# Altium footprint library aiskylab-08Optoelectronics.PcbLib: 57 footprints (part 4 of 4)
Each footprint in its own frame and in the unit in brackets; x right, y up, seen from the top. Pads: shape width x height; smd on the part's side, far side on the other; paste and mask are expansions set on the pad; w line width, h text height; cw(c..) or ccw(c..) is an arc to the next point about the centre after c.
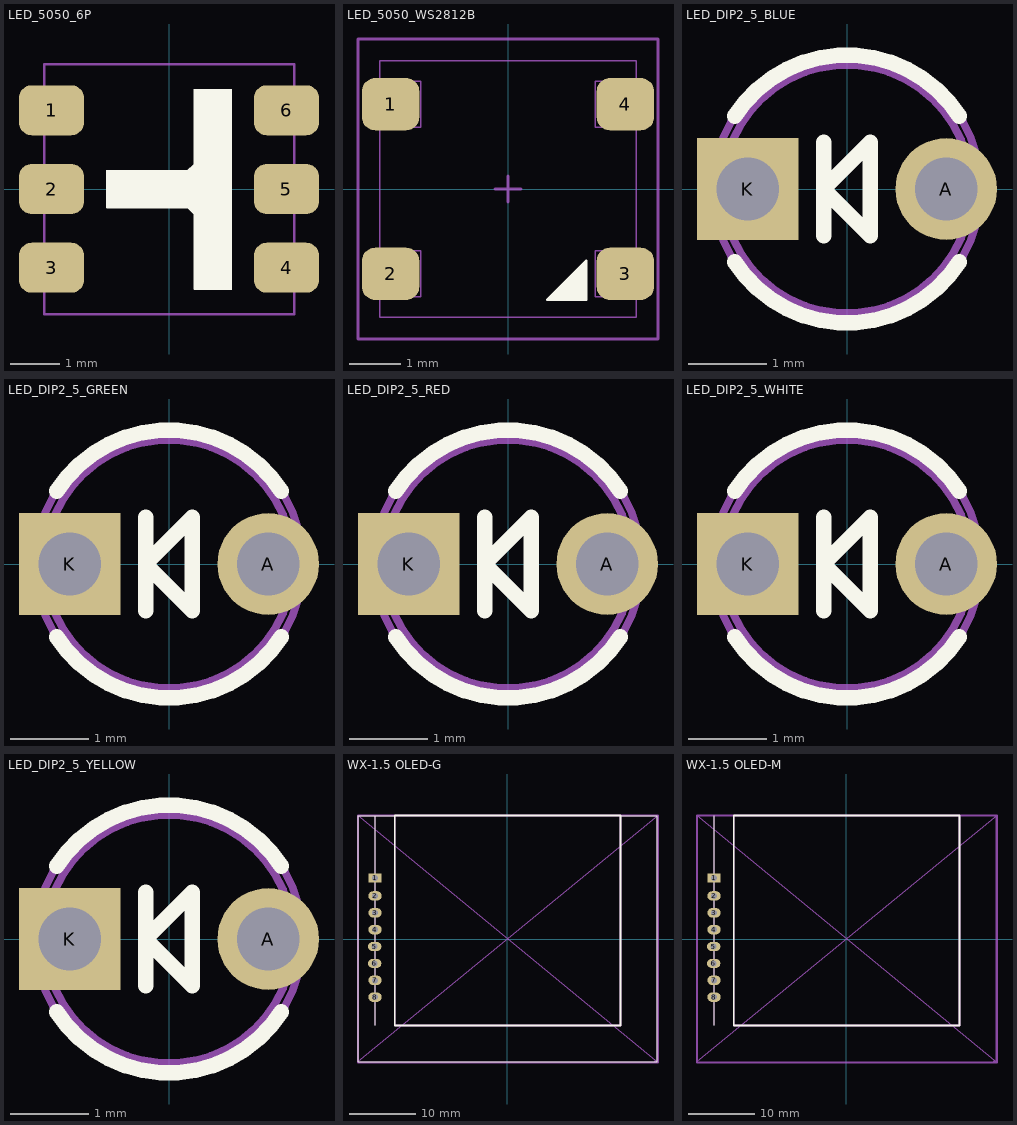
[diagram p3: the footprints below, top view; thin cyan lines are the x and y axes]

## LED_5050_6P [mil]
height 47.24
pads (6):
  rrect50% 52x40 smd: 1(-94,62.99) 2(-94,0) 3(-94,-62.99) 4(94,-62.99) 5(94,0) 6(94,62.99)
Top Overlay:
  region: 20,80 50,80 50,-80 20,-80 20,-20 15,-15 -50,-15 -50,15 15,15 20,20
  lines w1: -50,-15 -50,15 15,15 20,20 20,80 50,80 50,-80 20,-80 20,-20 15,-15 -50,-15
Bottom Value:
  lines w2: -10,0 10,0 ; 0,-10 0,10
Top 3D Body:
  lines w2: -100,-100 100,-100 100,100 -100,100 -100,-100
  text ".Designator" at -30,-20 h80
3D body "User Library-smd_led_5050.STEP": height 62.99, standoff 0, extent -104.33,-98.5 104.33,98.35

## LED_5050_WS2812B [mil]
pads (4):
  rrect50% 44x40 smd: 1(-90,65) 2(-90,-65) 3(90,-65) 4(90,65)
Top Overlay:
  region: 60,-85 30,-85 60,-55
  lines w2: 30,-85 60,-55 60,-85 30,-85
Bottom Value:
  lines w1: -101.93,-82.45 -66.93,-82.45 -66.93,-47.45 -101.93,-47.45 -101.93,-82.45 ; -101.93,47.46 -101.93,82.46 -66.93,82.46 -66.93,47.46 -101.93,47.46 ; -98.43,-98.43 -98.43,98.43 98.43,98.43 98.43,-98.43 -98.43,-98.43 ; 66.93,-82.45 66.93,-47.45 101.93,-47.45 101.93,-82.45 66.93,-82.45 ; 66.93,47.46 101.93,47.46 101.93,82.46 66.93,82.46 66.93,47.46
  lines w2: -10,0 10,0 ; 0,-10 0,10
Top 3D Body:
  lines w2: -115,-115 115,-115 115,115 -115,115 -115,-115
  text ".Designator" at -30,-20 h80
3D body "11821.STEP": height 69.02, standoff 0.13, extent -106.29,-98.42 106.3,98.43

## LED_DIP2_5_BLUE [mm]
height 1.2
pads (2):
  round 1.3 hole 0.8: A(1.27,0)
  rect 1.3x1.3 hole 0.8: K(-1.27,0)
Top Overlay:
  lines w0.2: -1.438,-0.934 ccw(c0,0) 1.438,-0.934 ; -1.438,0.934 cw(c0,0) 1.438,0.934 ; -0.3,-0.6 -0.3,0.6 ; -0.3,0 0.3,-0.6 0.3,0.6 -0.3,0
Top Assembly:
  circle w0.1: c0,0 r1.715
  circle w0.1: c0,0 r1.59
  lines w0.1: -0.3,-0.6 -0.3,0.6 ; -0.3,0 0.3,0.6 0.3,-0.6 -0.3,0
Top 3D Body:
  text ".Designator" at -0.762,-0.508 h2.03
3D body "User Library-LEDd5B.STEP": height 12.31, standoff -2.49, extent -3.005,-2.984 2.415,3.035

## LED_DIP2_5_GREEN [mm]
height 1.2
pads (2):
  round 1.3 hole 0.8: A(1.27,0)
  rect 1.3x1.3 hole 0.8: K(-1.27,0)
Top Overlay:
  lines w0.2: -1.438,-0.934 ccw(c0,0) 1.438,-0.934 ; -1.438,0.934 cw(c0,0) 1.438,0.934 ; -0.3,-0.6 -0.3,0.6 ; -0.3,0 0.3,0.6 0.3,-0.6 -0.3,0
Top Assembly:
  circle w0.1: c0,0 r1.59
  circle w0.1: c0,0 r1.715
  lines w0.1: -0.3,-0.6 -0.3,0.6 ; -0.3,0 0.3,-0.6 0.3,0.6 -0.3,0
Top 3D Body:
  text ".Designator" at -0.762,-0.508 h2.03
3D body "SW3dPS-LEDd5G.STEP": height 12.31, standoff -2.49, extent -3.005,-3.01 2.415,3.01

## LED_DIP2_5_RED [mm]
height 1.2
pads (2):
  round 1.3 hole 0.8: A(1.27,0)
  rect 1.3x1.3 hole 0.8: K(-1.27,0)
Top Overlay:
  lines w0.2: -1.438,-0.934 ccw(c0,0) 1.438,-0.934 ; -1.438,0.934 cw(c0,0) 1.438,0.934 ; -0.3,-0.6 -0.3,0.6 ; -0.3,0 0.3,-0.6 0.3,0.6 -0.3,0
Top Assembly:
  circle w0.1: c0,0 r1.715
  circle w0.1: c0,0 r1.59
  lines w0.1: -0.3,-0.6 -0.3,0.6 ; -0.3,0 0.3,0.6 0.3,-0.6 -0.3,0
Top 3D Body:
  text ".Designator" at -0.762,-0.508 h2.03
3D body "SW3dPS-LEDd5R.STEP": height 12.31, standoff -2.49, extent -3.005,-2.984 2.415,3.035

## LED_DIP2_5_WHITE [mm]
height 1.2
pads (2):
  round 1.3 hole 0.8: A(1.27,0)
  rect 1.3x1.3 hole 0.8: K(-1.27,0)
Top Overlay:
  lines w0.2: -1.438,-0.934 ccw(c0,0) 1.438,-0.934 ; -1.438,0.934 cw(c0,0) 1.438,0.934 ; -0.3,-0.6 -0.3,0.6 ; -0.3,0 0.3,-0.6 0.3,0.6 -0.3,0
Top Assembly:
  circle w0.1: c0,0 r1.715
  circle w0.1: c0,0 r1.59
  lines w0.1: -0.3,-0.6 -0.3,0.6 ; -0.3,0 0.3,0.6 0.3,-0.6 -0.3,0
Top 3D Body:
  text ".Designator" at -0.762,-0.508 h2.03
3D body "SW3dPS-LEDd5C.STEP": height 12.31, standoff -2.49, extent -2.954,-3.01 2.466,3.01

## LED_DIP2_5_YELLOW [mm]
height 1.2
pads (2):
  round 1.3 hole 0.8: A(1.27,0)
  rect 1.3x1.3 hole 0.8: K(-1.27,0)
Top Overlay:
  lines w0.2: -1.438,-0.934 ccw(c0,0) 1.438,-0.934 ; -1.438,0.934 cw(c0,0) 1.438,0.934 ; -0.3,-0.6 -0.3,0.6 ; -0.3,0 0.3,-0.6 0.3,0.6 -0.3,0
Top Assembly:
  circle w0.1: c0,0 r1.715
  circle w0.1: c0,0 r1.59
  lines w0.1: -0.3,-0.6 -0.3,0.6 ; -0.3,0 0.3,0.6 0.3,-0.6 -0.3,0
Top 3D Body:
  text ".Designator" at -0.762,-0.508 h2.03
3D body "SW3dPS-LEDd5Y.STEP": height 12.31, standoff -2.49, extent -2.939,-3.022 2.481,2.997

## WX-1.5 OLED-G [mm] "TSW-108-07-G-S"
pads (8):
  rect 2x1.4 hole 0.9: 1(-19.888,9.207)
  oval 2x1.4 hole 0.9: 2(-19.888,6.507) 3(-19.888,3.967) 4(-19.888,1.427) 5(-19.939,-1.113) 6(-19.939,-3.653) 7(-19.888,-6.193) 8(-19.888,-8.733)
Top Overlay:
  lines w0.1: -19.888,-12.954 -19.888,18.567 ; -22.438,-18.433 22.571,-18.433 22.571,18.575 -22.438,18.575 -22.438,-18.433
  lines w0.254: -16.926,-12.997 17.033,-12.997 17.033,18.6 -16.926,18.6 -16.926,-12.997
Top Designator:
  text ".Designator" at -7.503,-0.489 h1.52
Top Component Outline:
  lines w0.1: -19.888,-12.954 -19.888,18.567 ; -22.438,-18.433 22.571,-18.433 22.571,18.575 -22.438,18.575 -22.438,-18.433
  lines w0.254: -16.926,-12.997 17.033,-12.997 17.033,18.6 -16.926,18.6 -16.926,-12.997
Top 3D Body:
  lines w0.254: -22.454,-18.41 22.682,18.598 ; 22.225,-18.41 22.682,-18.563 ; -22.454,18.598 22.682,-18.563 ; -22.454,18.598 22.682,18.598 ; -22.454,18.598 -22.454,-18.563 22.682,-18.563 ; 22.682,-18.563 22.682,18.598
3D body "tsw_108_07_g_s_asm.stp": height 9.54, standoff -1.38, extent -21.133,-10.007 -18.593,10.44
3D body "wx-15oled.stp": height 8.95, standoff 0.55, extent -22.454,-18.563 22.546,18.437

## WX-1.5 OLED-M [mm] "SLW-108-01-T-S"
pads (8):
  rect 2x1.4 hole 0.9: 1(-19.888,9.207)
  oval 2x1.4 hole 0.9: 2(-19.888,6.507) 3(-19.888,3.967) 4(-19.888,1.427) 5(-19.939,-1.113) 6(-19.939,-3.653) 7(-19.888,-6.193) 8(-19.888,-8.733)
Top Overlay:
  lines w0.1: -19.888,-12.954 -19.888,18.567
  lines w0.254: -16.926,-12.997 17.033,-12.997 17.033,18.6 -16.926,18.6 -16.926,-12.997
Top Designator:
  text ".Designator" at -7.503,-0.489 h1.52
Top Component Outline:
  lines w0.1: -22.438,-18.433 -22.438,18.575 22.571,18.575 22.571,-18.433 -22.438,-18.433
Top 3D Body:
  lines w0.254: -22.454,-18.41 22.682,18.598 ; 22.225,-18.41 22.682,-18.563 ; -22.454,18.598 22.682,-18.563 ; -22.454,18.598 22.682,18.598 ; -22.454,18.598 -22.454,-18.563 22.682,-18.563 ; 22.682,-18.563 22.682,18.598
Bottom 3D Body:
  lines w0.1: -19.888,-12.954 -19.888,18.567
  lines w0.254: -16.926,-12.997 17.033,-12.997 17.033,18.6 -16.926,18.6 -16.926,-12.997
3D body "tsw_108_07_g_s_asm.stp": height 9.54, standoff -1.38, extent -21.133,-10.007 -18.593,10.44
3D body "slw_108_01_t_s_asm.stp": height 4.57, standoff -2.92, extent -21.133,-9.88 -18.593,10.44
3D body "wx-15oled.stp": height 8.95, standoff 0.55, extent -22.562,-18.551 22.438,18.449